# Altium schematic symbol library sym-0018.SchLib: 1 symbol
Pins are listed as number, name and electrical type; pins without a type are passive.

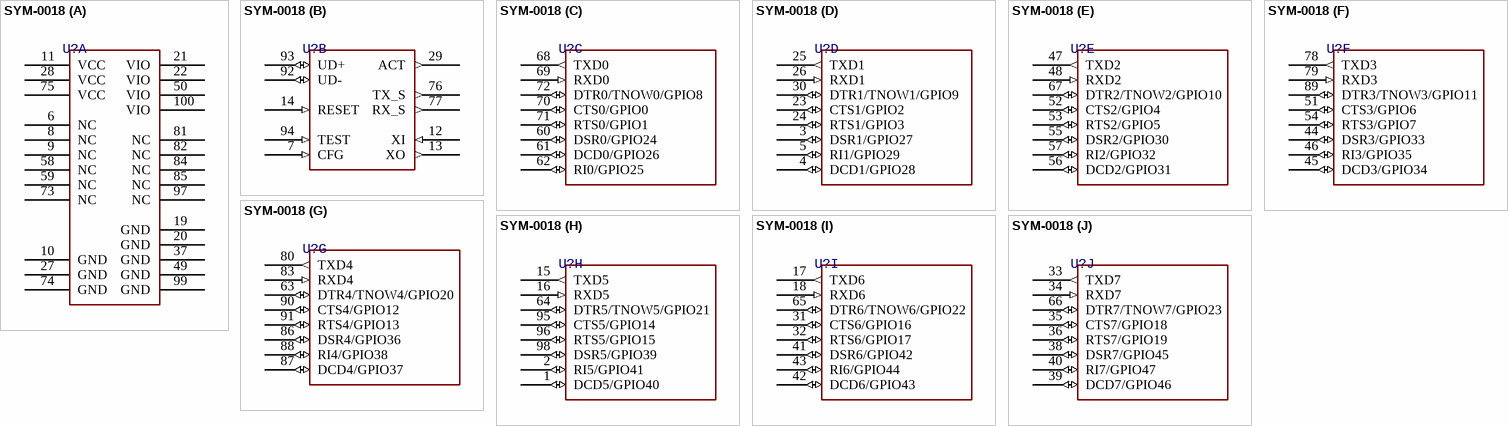
[diagram p0: symbol SYM-0018]

## SYM-0018
designator U?
CH348L
part A pins: 6 NC, 8 NC, 9 NC, 10 GND (power), 11 VCC (power), 19 GND (power), 20 GND (power), 21 VIO (power), 22 VIO (power), 27 GND (power), 28 VCC (power), 37 GND (power), 49 GND (power), 50 VIO (power), 58 NC, 59 NC, 73 NC, 74 GND (power), 75 VCC (power), 81 NC, 82 NC, 84 NC, 85 NC, 97 NC, 99 GND (power), 100 VIO (power)
part B pins: 7 CFG (in), 12 XI (in), 13 XO (out), 14 RESET (in), 29 ACT (out), 76 TX_S (out), 77 RX_S (out), 92 UD- (io), 93 UD+ (io), 94 TEST (in)
part C pins: 60 DSR0/GPIO24 (io), 61 DCD0/GPIO26 (io), 62 RI0/GPIO25 (io), 68 TXD0 (out), 69 RXD0 (in), 70 CTS0/GPIO0 (io), 71 RTS0/GPIO1 (io), 72 DTR0/TNOW0/GPIO8 (io)
part D pins: 3 DSR1/GPIO27 (io), 4 DCD1/GPIO28 (io), 5 RI1/GPIO29 (io), 23 CTS1/GPIO2 (io), 24 RTS1/GPIO3 (io), 25 TXD1 (out), 26 RXD1 (in), 30 DTR1/TNOW1/GPIO9 (io)
part E pins: 47 TXD2 (out), 48 RXD2 (in), 52 CTS2/GPIO4 (io), 53 RTS2/GPIO5 (io), 55 DSR2/GPIO30 (io), 56 DCD2/GPIO31 (io), 57 RI2/GPIO32 (io), 67 DTR2/TNOW2/GPIO10 (io)
part F pins: 44 DSR3/GPIO33 (io), 45 DCD3/GPIO34 (io), 46 RI3/GPIO35 (io), 51 CTS3/GPIO6 (io), 54 RTS3/GPIO7 (io), 78 TXD3 (out), 79 RXD3 (in), 89 DTR3/TNOW3/GPIO11 (io)
part G pins: 63 DTR4/TNOW4/GPIO20 (io), 80 TXD4 (out), 83 RXD4 (in), 86 DSR4/GPIO36 (io), 87 DCD4/GPIO37 (io), 88 RI4/GPIO38 (io), 90 CTS4/GPIO12 (io), 91 RTS4/GPIO13 (io)
part H pins: 1 DCD5/GPIO40 (io), 2 RI5/GPIO41 (io), 15 TXD5 (out), 16 RXD5 (in), 64 DTR5/TNOW5/GPIO21 (io), 95 CTS5/GPIO14 (io), 96 RTS5/GPIO15 (io), 98 DSR5/GPIO39 (io)
part I pins: 17 TXD6 (out), 18 RXD6 (in), 31 CTS6/GPIO16 (io), 32 RTS6/GPIO17 (io), 41 DSR6/GPIO42 (io), 42 DCD6/GPIO43 (io), 43 RI6/GPIO44 (io), 65 DTR6/TNOW6/GPIO22 (io)
part J pins: 33 TXD7 (out), 34 RXD7 (in), 35 CTS7/GPIO18 (io), 36 RTS7/GPIO19 (io), 38 DSR7/GPIO45 (io), 39 DCD7/GPIO46 (io), 40 RI7/GPIO47 (io), 66 DTR7/TNOW7/GPIO23 (io)